# Altium footprint library PCB - CONNECTOR - WURTH - WURTH 691322110012.PcbLib: 1 footprints
Each footprint in its own frame and in the unit in brackets; x right, y up, seen from the top. Pads: shape width x height; smd on the part's side, far side on the other; paste and mask are expansions set on the pad; w line width, h text height; cw(c..) or ccw(c..) is an arc to the next point about the centre after c.
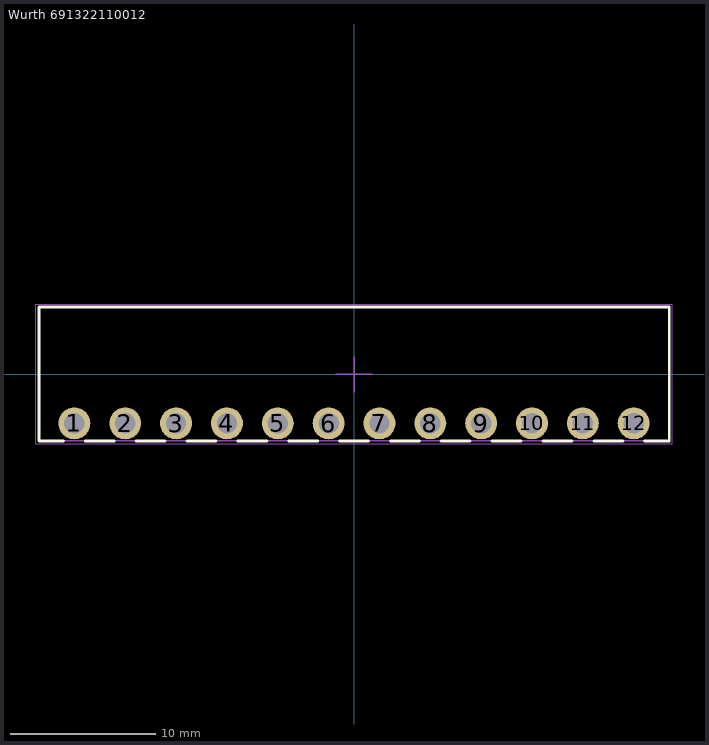
[diagram p0: the footprint, top view; thin cyan lines are the x and y axes]

## Wurth 691322110012 [mm] "12 Position Terminal Block Header, Male Pins, 3.5mm Pitch,43.4x9.2mm Body, 90°, Right Angle, THT"
height 7.4
pads (12):
  round 2.2 hole 1.4: 1(-19.25,-3.4) 2(-15.75,-3.4) 3(-12.25,-3.4) 4(-8.75,-3.4) 5(-5.25,-3.4) 6(-1.75,-3.4) 7(1.75,-3.4) 8(5.25,-3.4) 9(8.75,-3.4) 10(12.25,-3.4) 11(15.75,-3.4) 12(19.25,-3.4)
Top Overlay:
  lines w0.2: -20.005,-4.6 -21.7,-4.6 -21.7,4.6 21.7,4.6 21.7,-4.6 20.005,-4.6 ; -18.505,-4.6 -16.505,-4.6 ; -15,-4.6 -13,-4.6 ; -11.495,-4.6 -9.495,-4.6 ; -8.005,-4.6 -6.005,-4.6 ; -4.495,-4.6 -2.495,-4.6 ; -1.005,-4.6 0.995,-4.6 ; 2.505,-4.6 4.505,-4.6 ; 5.995,-4.6 7.995,-4.6 ; 9.505,-4.6 11.505,-4.6 ; 12.995,-4.6 14.995,-4.6 ; 16.505,-4.6 18.505,-4.6
Mechanical 13:
  lines w0.1: -21.7,-4.6 21.7,-4.6 21.7,4.6 -21.7,4.6 -21.7,-4.6
Mechanical 15 (Mech15):
  lines w0.05: -21.905,-4.8 21.9,-4.8 21.9,4.8 -21.905,4.8 -21.905,-4.8
  lines w0.1: -1.25,0 0,0 ; 0,-1.25 0,0 ; 0,1.2 0,0 ; 1.25,0 0,0
3D body "Würth Elektronik - 691322110012 v2.step": height 7.2, standoff -3.5, extent -21.7,-4.6 21.7,4.6